# Altium schematic symbol library USB type A smd.SchLib: 1 symbol
Pins are listed as number, name and electrical type; pins without a type are passive.

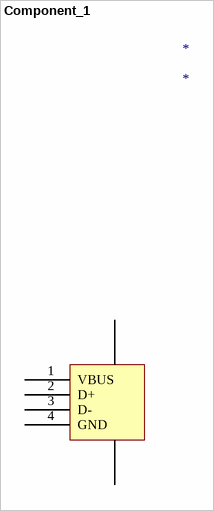
[diagram p0: symbol Component_1]

## Component_1
designator *
footprint PCBComponent_1
pins: 1 VBUS, 2 D+, 3 D-, 4 GND, ?1, ?2